# EAGLE library part WE-FB_LT3573 (library WE-FB_LT3573)
Flyback Converter WE-FB for LT3573 - Input voltage: 24 V - Output power: 5 W - Isolation voltage: 1.5 kV - designd for LT3573 -- Industrial input voltage
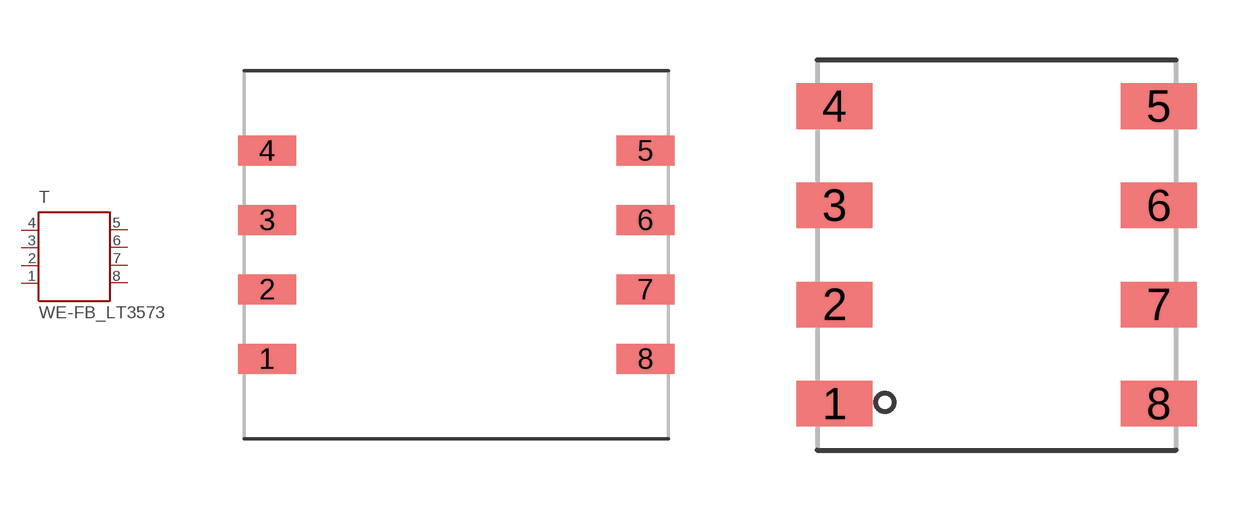
[diagram p0: symbol with the pads of WE_EP10_SMD_8PIN; footprints WE_EP10_SMD_8PIN, WE_EP7_SMD_8PIN]

Designator prefix T

## WE-FB_LT3573-750310471_WE-FB_EP10 (MPN: 750310471; OC_FARNELL: 1748681; OC_NEWARK: 34R6109; PACKAGE: EP10; SUPPLIER: Würth Elektronik eiSos GmbH), WE-FB_LT3573-750310559_WE-FB_EP10 (MPN: 750310559; OC_FARNELL: 1748680; OC_NEWARK: 34R6110; PACKAGE: EP10; SUPPLIER: Würth Elektronik eiSos GmbH), WE-FB_LT3573-750310562_WE-FB_EP10 (MPN: 750310562; OC_FARNELL: 1748682; OC_NEWARK: 34R6111; PACKAGE: EP10; SUPPLIER: Würth Elektronik eiSos GmbH), WE-FB_LT3573-750310563_WE-FB_EP10 (MPN: 750310563; OC_FARNELL: 1748685; OC_NEWARK: 34R6112; PACKAGE: EP10; SUPPLIER: Würth Elektronik eiSos GmbH), WE-FB_LT3573-750310564_WE-FB_EP10 (MPN: 750310564; OC_FARNELL: 1748686; OC_NEWARK: 34R6113; PACKAGE: EP10; SUPPLIER: Würth Elektronik eiSos GmbH), WE-FB_LT3573-750311303_WE-FB_EP10 (MPN: 750311303; OC_FARNELL: 1895732; OC_NEWARK: 47T5821; PACKAGE: EP10; SUPPLIER: Würth Elektronik eiSos GmbH), WE-FB_LT3573-750311304_WE-FB_EP10 (MPN: 750311304; OC_FARNELL: 1895733; OC_NEWARK: 47T5822; PACKAGE: EP10; SUPPLIER: Würth Elektronik eiSos GmbH), WE-FB_LT3573-750311305_WE-FB_EP10 (MPN: 750311305; OC_FARNELL: 1895735; OC_NEWARK: 47T5823; PACKAGE: EP10; SUPPLIER: Würth Elektronik eiSos GmbH), WE-FB_LT3573-750311306_WE-FB_EP10 (MPN: 750311306; OC_FARNELL: 1895736; OC_NEWARK: 47T5824; PACKAGE: EP10; SUPPLIER: Würth Elektronik eiSos GmbH), WE-FB_LT3573-750311307_WE-FB_EP10 (MPN: 750311307; OC_FARNELL: 1895737; OC_NEWARK: 47T5825; PACKAGE: EP10; SUPPLIER: Würth Elektronik eiSos GmbH), WE-FB_LT3573-750311308_WE-FB_EP10 (MPN: 750311308; OC_FARNELL: 1895738; OC_NEWARK: 47T5826; PACKAGE: EP10; SUPPLIER: Würth Elektronik eiSos GmbH), WE-FB_LT3573-750311567_WE-FB_EP10 (MPN: 750311567; OC_FARNELL: 1895740; OC_NEWARK: 47T5839; PACKAGE: EP10; SUPPLIER: Würth Elektronik eiSos GmbH), WE-FB_LT3573-750311675_WE-FB_EP10 (MPN: 750311675; OC_FARNELL: 1895739; OC_NEWARK: 47T5858; PACKAGE: EP10; SUPPLIER: Würth Elektronik eiSos GmbH)  [WE_EP10_SMD_8PIN]
1  1  pas
2  2  pas
3  3  pas
4  4  pas
5  5  pas
6  6  pas
7  7  pas
8  8  pas

## WE-FB_LT3573-750310799_WE-FB_EP7 (MPN: 750310799; OC_FARNELL: 1748689; OC_NEWARK: 34R6114; PACKAGE: EP7_SMD_8PIN; SUPPLIER: Würth Elektronik eiSos GmbH), WE-FB_LT3573-750311692_WE-FB_EP7 (MPN: 750311692; OC_FARNELL: 1895728; OC_NEWARK: 47T5862; PACKAGE: EP7_SMD_8PIN; SUPPLIER: Würth Elektronik eiSos GmbH), WE-FB_LT3573-750370040_WE-FB_EP7 (MPN: 750370040; OC_FARNELL: 1748687; OC_NEWARK: 34R6115; PACKAGE: EP7_SMD_8PIN; SUPPLIER: Würth Elektronik eiSos GmbH), WE-FB_LT3573-750370041_WE-FB_EP7 (MPN: 750370041; OC_FARNELL: 1748688; OC_NEWARK: 34R6116; PACKAGE: EP7_SMD_8PIN; SUPPLIER: Würth Elektronik eiSos GmbH)  [WE_EP7_SMD_8PIN]
Pads as for WE_EP10_SMD_8PIN

## WE-FB_LT3573-750370047_WE-FB_750370047 (MPN: 750370047; OC_FARNELL: 1748690; OC_NEWARK: 34R6118; PACKAGE: EP7; SUPPLIER: Würth Elektronik eiSos GmbH)  [WE_EP7*_750370047]
Pads as for WE_EP10_SMD_8PIN

## WE-FB_LT3573_WE-FB_750370058_750370059  [WE_EP7*_750370058_750370059]
Pads as for WE_EP10_SMD_8PIN

## WE-FB_LT3573-750370042_WE-FB_ER9.5 (MPN: 750370042; OC_FARNELL: 1748691; OC_NEWARK: 34R6117; PACKAGE: ER9.5; SUPPLIER: Würth Elektronik eiSos GmbH)  [WE_ER9.5_SMD_8PIN]
1  4  pas
2  3  pas
3  2  pas
4  1  pas
5  8  pas
6  7  pas
7  6  pas
8  5  pas

## Footprint WE_EP10_SMD_8PIN (pad centres in mm)
Transformer, EP10 SMD 8 Pin
smd 2.08 x 1.07: 1 -6.78,-3.735; 2 -6.78,-1.245; 3 -6.78,1.245; 4 -6.78,3.735; 5 6.78,3.735; 6 6.78,1.245; 7 6.78,-1.245; 8 6.78,-3.735

## Footprint WE_EP7_SMD_8PIN (pad centres in mm)
Transformer, EP7 SMD 8 Pin
smd 1.91 x 1.143: 1 -4.065,-3.735; 2 -4.065,-1.245; 3 -4.065,1.245; 4 -4.065,3.735; 5 4.065,3.735; 6 4.065,1.245; 7 4.065,-1.245; 8 4.065,-3.735

## Footprint WE_EP7*_750370047 (pad centres in mm)
Transformer, EP7* SMD 8Pin für WE-FB
smd 1.96 x 1.17: 1 -6.16,-3.735; 2 -6.16,-1.245; 3 -6.16,1.245; 4 -6.16,3.735; 5 6.16,3.735; 6 6.16,1.245; 7 6.16,-1.245; 8 6.16,-3.735

## Footprint WE_EP7*_750370058_750370059 (pad centres in mm)
Transformer, EP7* SMD 8Pin für WE-FB
smd 1.96 x 1.17: 1 -5.83,-3.75; 2 -5.83,-1.25; 3 -5.83,1.25; 4 -5.83,3.75; 5 5.83,3.75; 6 5.83,1.25; 7 5.83,-1.25; 8 5.83,-3.75

## Footprint WE_ER9.5_SMD_8PIN (pad centres in mm)
Transformer, ER9.5 SMD 8 Pin
smd 1.7 x 1.12: 1 -5.46,3; 2 -5.46,1; 3 -5.46,-1; 4 -5.46,-3; 5 5.46,-3; 6 5.46,-1; 7 5.46,1; 8 5.46,3